# Altium footprint library FB_0603_1608.PcbLib: 1 footprints
Each footprint in its own frame and in the unit in brackets; x right, y up, seen from the top. Pads: shape width x height; smd on the part's side, far side on the other; paste and mask are expansions set on the pad; w line width, h text height; cw(c..) or ccw(c..) is an arc to the next point about the centre after c.
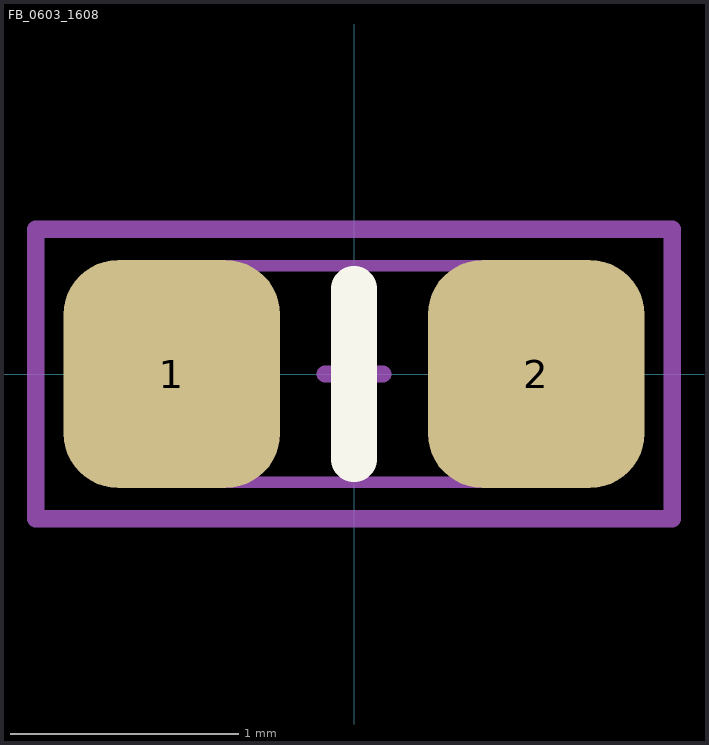
[diagram p0: the footprint, top view; thin cyan lines are the x and y axes]

## FB_0603_1608 [mm]
pads (2):
  rrect50% 0.95x1 smd mask+0: 1(-0.8,0) 2(0.8,0)
Top Overlay:
  lines w0.2: 0,-0.375 0,0.375
Assembly Top:
  lines w0.05: -0.875,-0.475 -0.875,0.475 0.875,0.475 0.875,-0.475 -0.875,-0.475
  text "'.Designator'" at -0.762,-0.127 h0.2
Courtyard Top:
  lines w0.076: -0.127,0 0.127,0 ; 0,-0.127 0,0.127 ; -1.397,-0.635 -1.397,0.635 1.397,0.635 1.397,-0.635 -1.397,-0.635
3D body "INDC1608X95N.stp": height 1, standoff 0, extent -0.875,-0.475 0.875,0.475